# EAGLE library part FPC-57WAY (library pimoroni-fpc)
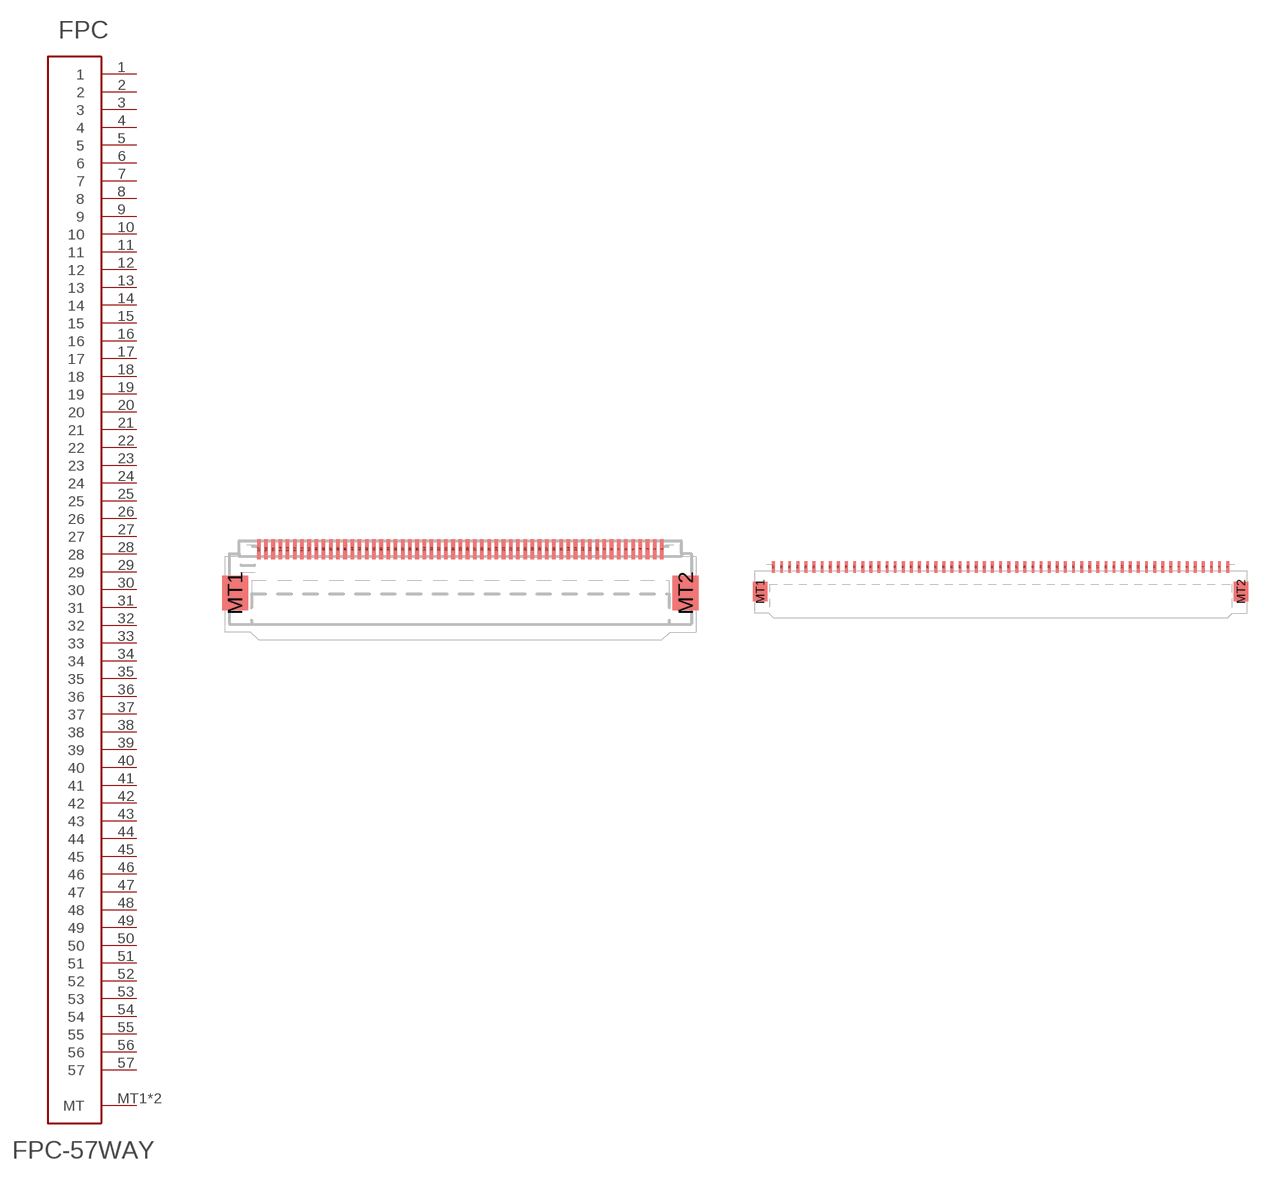
[diagram p52: symbol with the pads of FPC-0.5MM-57WAY; footprints FPC-0.5MM-57WAY, FPC-1.0MM-57WAY]

Designator prefix FPC

## FPC-57WAY0.5  [FPC-0.5MM-57WAY]
1  1
2  2
3  3
4  4
5  5
6  6
7  7
8  8
9  9
10  10
11  11
12  12
13  13
14  14
15  15
16  16
17  17
18  18
19  19
20  20
21  21
22  22
23  23
24  24
25  25
26  26
27  27
28  28
29  29
30  30
31  31
32  32
33  33
34  34
35  35
36  36
37  37
38  38
39  39
40  40
41  41
42  42
43  43
44  44
45  45
46  46
47  47
48  48
49  49
50  50
51  51
52  52
53  53
54  54
55  55
56  56
57  57
MT1  MT
MT2  MT

## FPC-57WAY1.0  [FPC-1.0MM-57WAY]
Pads as for FPC-0.5MM-57WAY

## Footprint FPC-0.5MM-57WAY (pad centres in mm)
smd 0.25 x 1.4: 1 14,0.7; 2 13.5,0.7; 3 13,0.7; 4 12.5,0.7; 5 12,0.7; 6 11.5,0.7; 7 11,0.7; 8 10.5,0.7; 9 10,0.7; 10 9.5,0.7; 11 9,0.7; 12 8.5,0.7; 13 8,0.7; 14 7.5,0.7; 15 7,0.7; 16 6.5,0.7; 17 6,0.7; 18 5.5,0.7; 19 5,0.7; 20 4.5,0.7; 21 4,0.7; 22 3.5,0.7; 23 3,0.7; 24 2.5,0.7; 25 2,0.7; 26 1.5,0.7; 27 1,0.7; 28 0.5,0.7; 29 0,0.7; 30 -0.5,0.7; 31 -1,0.7; 32 -1.5,0.7; 33 -2,0.7; 34 -2.5,0.7; 35 -3,0.7; 36 -3.5,0.7; 37 -4,0.7; 38 -4.5,0.7; 39 -5,0.7; 40 -5.5,0.7; 41 -6,0.7; 42 -6.5,0.7; 43 -7,0.7; 44 -7.5,0.7; 45 -8,0.7; 46 -8.5,0.7; 47 -9,0.7; 48 -9.5,0.7; 49 -10,0.7; 50 -10.5,0.7; 51 -11,0.7; 52 -11.5,0.7; 53 -12,0.7; 54 -12.5,0.7; 55 -13,0.7; 56 -13.5,0.7; 57 -14,0.7
smd 1.8 x 2.4: MT1 -15.65,-2.35; MT2 15.65,-2.35

## Footprint FPC-1.0MM-57WAY (pad centres in mm)
smd 0.35 x 1.4: 1 28,0.7; 2 27,0.7; 3 26,0.7; 4 25,0.7; 5 24,0.7; 6 23,0.7; 7 22,0.7; 8 21,0.7; 9 20,0.7; 10 19,0.7; 11 18,0.7; 12 17,0.7; 13 16,0.7; 14 15,0.7; 15 14,0.7; 16 13,0.7; 17 12,0.7; 18 11,0.7; 19 10,0.7; 20 9,0.7; 21 8,0.7; 22 7,0.7; 23 6,0.7; 24 5,0.7; 25 4,0.7; 26 3,0.7; 27 2,0.7; 28 1,0.7; 29 0,0.7; 30 -1,0.7; 31 -2,0.7; 32 -3,0.7; 33 -4,0.7; 34 -5,0.7; 35 -6,0.7; 36 -7,0.7; 37 -8,0.7; 38 -9,0.7; 39 -10,0.7; 40 -11,0.7; 41 -12,0.7; 42 -13,0.7; 43 -14,0.7; 44 -15,0.7; 45 -16,0.7; 46 -17,0.7; 47 -18,0.7; 48 -19,0.7; 49 -20,0.7; 50 -21,0.7; 51 -22,0.7; 52 -23,0.7; 53 -24,0.7; 54 -25,0.7; 55 -26,0.7; 56 -27,0.7; 57 -28,0.7
smd 1.8 x 2.4: MT1 -29.65,-2.35; MT2 29.65,-2.35